# Altium footprint library ECS-80-18-5PX-TR.PcbLib: 3 footprints
Each footprint in its own frame and in the unit in brackets; x right, y up, seen from the top. Pads: shape width x height; smd on the part's side, far side on the other; paste and mask are expansions set on the pad; w line width, h text height; cw(c..) or ccw(c..) is an arc to the next point about the centre after c.
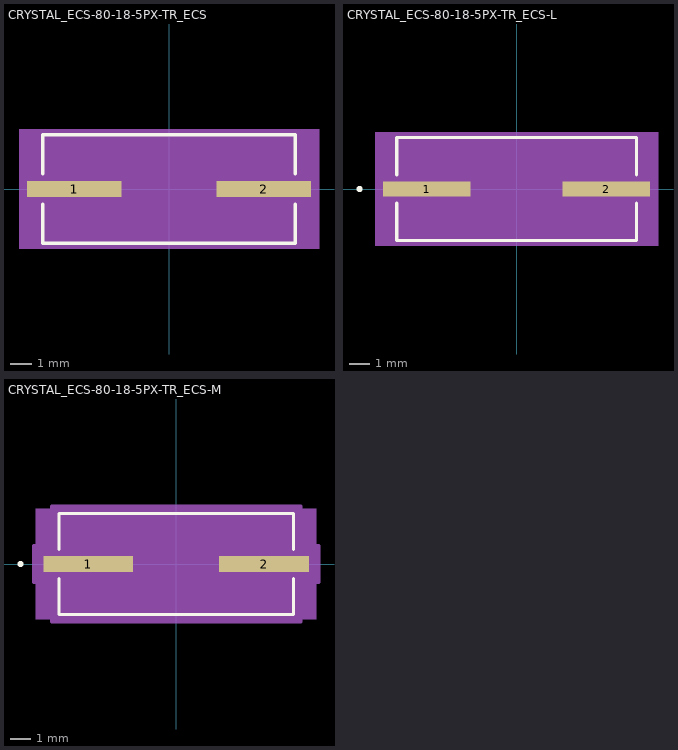
[diagram p0: the footprints below, top view; thin cyan lines are the x and y axes]

## CRYSTAL_ECS-80-18-5PX-TR_ECS [mil]
pads (2):
  rect 173x30 smd paste+0 mask+0: 1(-173.34,0) 2(173.34,0)
Top Overlay:
  lines w6: -231.5,-28.1 -231.5,-99.5 231.5,-99.5 231.5,-28.1 ; -231.5,28.1 -231.5,99.5 231.5,99.5 231.5,28.1
Mechanical 5:
  region: 274.84,-109.5 -274.84,-109.5 -274.84,109.5 274.84,109.5
Mechanical 13:
  circle w0: c0,0 r0
  lines w1: -226.5,-94.5 226.5,-94.5 226.5,94.5 -226.5,94.5 -226.5,-94.5
Mechanical 15:
  region: -236.5,-25 -269.84,-25 -269.84,25 -236.5,25 -236.5,104.5 236.5,104.5 236.5,25 269.84,25 269.84,-25 236.5,-25 236.5,-104.5 -236.5,-104.5
  lines w6: -269.84,-25 -269.84,25 -236.5,25 -236.5,104.5 236.5,104.5 236.5,25 269.84,25 269.84,-25 236.5,-25 236.5,-104.5 -236.5,-104.5 -236.5,-25 -269.84,-25
3D body "CRYSTAL_ECS-80-18-5PX-TR_ECS.step": height 169.09, standoff 0, extent -259.84,-94.49 259.84,94.49

## CRYSTAL_ECS-80-18-5PX-TR_ECS-L [mil]
pads (2):
  rect 169x28 smd paste+0 mask+0: 1(-173.34,0) 2(173.34,0)
Top Overlay:
  circle w6: c-303.34,0 r3
  lines w6: -231.5,-27.1 -231.5,-99.5 231.5,-99.5 231.5,-27.1 ; -231.5,27.1 -231.5,99.5 231.5,99.5 231.5,27.1
Mechanical 5:
  region: 272.84,-109.5 -272.84,-109.5 -272.84,109.5 272.84,109.5
Mechanical 13:
  circle w0: c0,0 r3
  lines w1: -226.5,-94.5 226.5,-94.5 226.5,94.5 -226.5,94.5 -226.5,-94.5
Mechanical 15:
  region: -230.5,-18 -261.84,-18 -261.84,18 -230.5,18 -230.5,98.5 230.5,98.5 230.5,18 261.84,18 261.84,-18 230.5,-18 230.5,-98.5 -230.5,-98.5
  lines w6: -261.84,-18 -261.84,18 -230.5,18 -230.5,98.5 230.5,98.5 230.5,18 261.84,18 261.84,-18 230.5,-18 230.5,-98.5 -230.5,-98.5 -230.5,-18 -261.84,-18
3D body "CRYSTAL_ECS-80-18-5PX-TR_ECS.step": height 169.09, standoff 0, extent -259.84,-94.49 259.84,94.49

## CRYSTAL_ECS-80-18-5PX-TR_ECS-M [mil]
pads (2):
  rect 177x32 smd paste+0 mask+0: 1(-173.34,0) 2(173.34,0)
Top Overlay:
  circle w6: c-307.34,0 r3
  lines w6: -231.5,-29.1 -231.5,-99.5 231.5,-99.5 231.5,-29.1 ; -231.5,29.1 -231.5,99.5 231.5,99.5 231.5,29.1
Mechanical 5:
  region: 276.84,-109.5 -276.84,-109.5 -276.84,109.5 276.84,109.5
Mechanical 13:
  circle w0: c0,0 r3
  lines w1: -226.5,-94.5 226.5,-94.5 226.5,94.5 -226.5,94.5 -226.5,-94.5
Mechanical 15:
  region: -246.5,-36 -281.84,-36 -281.84,36 -246.5,36 -246.5,114.5 246.5,114.5 246.5,36 281.84,36 281.84,-36 246.5,-36 246.5,-114.5 -246.5,-114.5
  lines w6: -281.84,-36 -281.84,36 -246.5,36 -246.5,114.5 246.5,114.5 246.5,36 281.84,36 281.84,-36 246.5,-36 246.5,-114.5 -246.5,-114.5 -246.5,-36 -281.84,-36
3D body "CRYSTAL_ECS-80-18-5PX-TR_ECS.step": height 169.09, standoff 0, extent -259.84,-94.49 259.84,94.49